# Altium schematic symbol library GRM1555C1H101JA01D.SchLib: 2 symbols
Pins are listed as number, name and electrical type; pins without a type are passive.

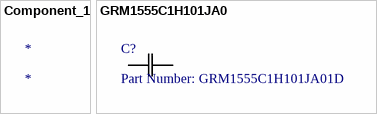
[diagram p0: symbols Component_1 to GRM1555C1H101JA0]

## Component_1
designator *

## GRM1555C1H101JA0
designator C?, comment Part Number: GRM1555C1H101JA01D
No Description Available; Vendor: Murata; Type: DEV; Copyright: Copyright (C) 2015 Accelerated Designs. All rights reserved; Manufacturer_Part_Number: GRM1555C1H101JA01D; RefDes: RefDes; Value: Value
footprint G-155
pins: 1, 2